# Altium integrated library regulador AP78L05.IntLib: 1 symbol
Pins are listed as number, name and electrical type; pins without a type are passive.

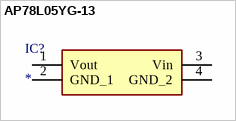
[diagram p0: symbol AP78L05YG-13]

## AP78L05YG-13
designator IC?
Integrated Circuit; Manufacturer_Name: Diodes Inc.; Manufacturer_Part_Number: AP78L05YG-13; Datasheet Link: https://www.diodes.com/assets/Datasheets/AP78LXX.pdf; Arrow Part Number: AP78L05YG-13; Arrow Price/Stock: https://www.arrow.com/en/products/ap78l05yg-13/diodes-incorporated; Mouser Part Number: 621-AP78L05YG-13; Mouser Price/Stock: https://www.mouser.com/Search/Refine.aspx?Keyword=621-AP78L05YG-13
footprint SOT89-3L
pins: 1 Vout, 2 GND_1, 3 Vin, 4 GND_2